# EAGLE library part LMR38010SQDDARQ1 (library LMR38010SQDDARQ1)
Switching Voltage Regulators Automotive SIMPLE SWITCHER® 4.2-V to 80-V, 1-A synchronous buck converter 8-SO PowerPAD -40 to 150 Source: Datasheet <https://www.ti.com/lit/ds/symlink/lmr38010-q1.pdf?ts=1705057277667&ref_url=https%3A%2F%2Fwww.mouser.it%2F>
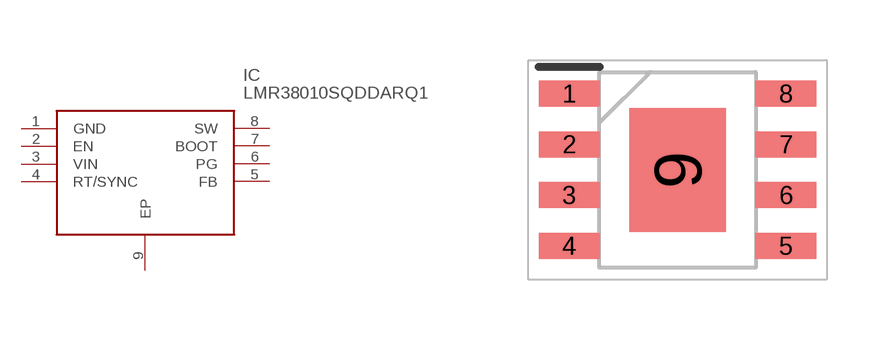
[diagram p0: symbol with the pads of SOIC127P600X170-9N; footprint SOIC127P600X170-9N]

Designator prefix IC

## LMR38010SQDDARQ1 (Arrow_Part_Number: LMR38010SQDDARQ1; Arrow_Price-Stock: https://www.arrow.com/en/products/lmr38010sqddarq1/texas-instruments?utm_currency=USD&region=nac; Description: Switching Voltage Regulators Automotive SIMPLE SWITCHER&reg; 4.2-V to 80-V, 1-A synchronous buck converter 8-SO PowerPAD -40 to 150; Height: 1.7mm; Manufacturer_Name: Texas Instruments; Manufacturer_Part_Number: LMR38010SQDDARQ1; Mouser_Part_Number: 595-LMR38010SQDDARQ1; Mouser_Price-Stock: https://www.mouser.co.uk/ProductDetail/Texas-Instruments/LMR38010SQDDARQ1?qs=ulEaXIWI0c%252Bo2sOa0nHa%252Bw%3D%3D)  [SOIC127P600X170-9N]
1  GND
2  EN
3  VIN
4  RT/SYNC
5  FB
6  PG
7  BOOT
8  SW
9  EP

## Footprint SOIC127P600X170-9N (pad centres in mm)
DDA (PDSO-G8)47
smd 1.525 x 0.65: 1 -2.712,1.905; 2 -2.712,0.635; 3 -2.712,-0.635; 4 -2.712,-1.905; 5 2.712,-1.905; 6 2.712,-0.635; 7 2.712,0.635; 8 2.712,1.905
smd 2.4 x 3.1: 9 0,0